# Altium footprint library MCP SOT-23-3 TT.PcbLib: 1 footprints
Each footprint in its own frame and in the unit in brackets; x right, y up, seen from the top. Pads: shape width x height; smd on the part's side, far side on the other; paste and mask are expansions set on the pad; w line width, h text height; cw(c..) or ccw(c..) is an arc to the next point about the centre after c.
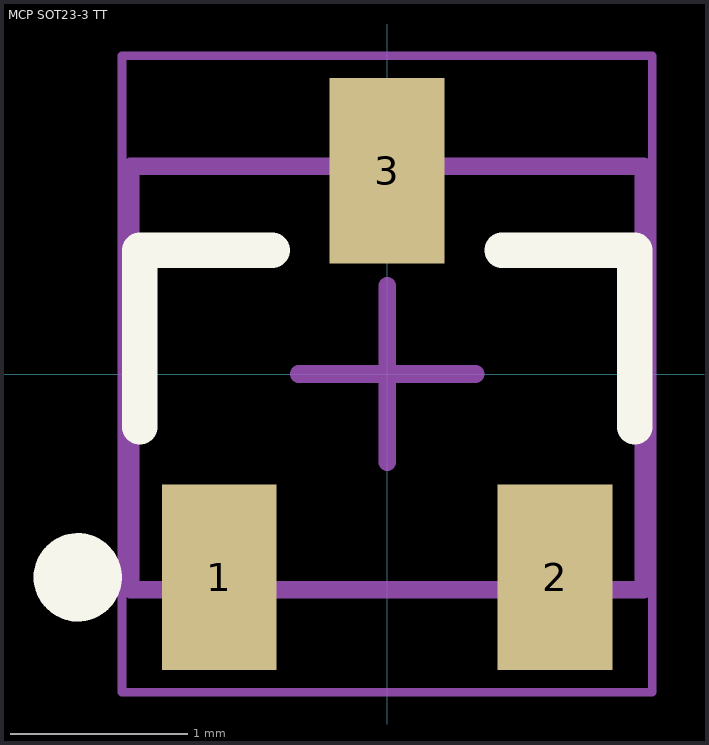
[diagram p0: the footprint, top view; thin cyan lines are the x and y axes]

## MCP SOT23-3 TT [mm]
height 1.12
pads (3):
  rect 0.65x1.05 smd: 1(-0.95,-1.15) 2(0.95,-1.15) 3(0,1.15)
Top Overlay:
  circle w0.25: c-1.75,-1.15 r0.125
  lines w0.2: -1.4,-0.3 -1.4,0.7 -0.65,0.7 ; 0.65,0.7 1.4,0.7 1.4,-0.3
Mechanical 13:
  lines w0.1: -1.45,-1.22 -1.45,1.175 1.45,1.175 1.45,-1.22 -1.45,-1.22
Mechanical 15:
  lines w0.05: -1.5,-1.8 -1.5,1.8 1.5,1.8 1.5,-1.8 -1.5,-1.8
  lines w0.1: -0.5,0 0.5,0 ; 0,-0.5 0,0.5
3D body "sot-23-3-microchip.STEP": height 1.22, standoff 0, extent -1.45,-1.22 1.45,1.221